# EAGLE library part TSW-S-45 (library con-samtec-tsw)
HEADER
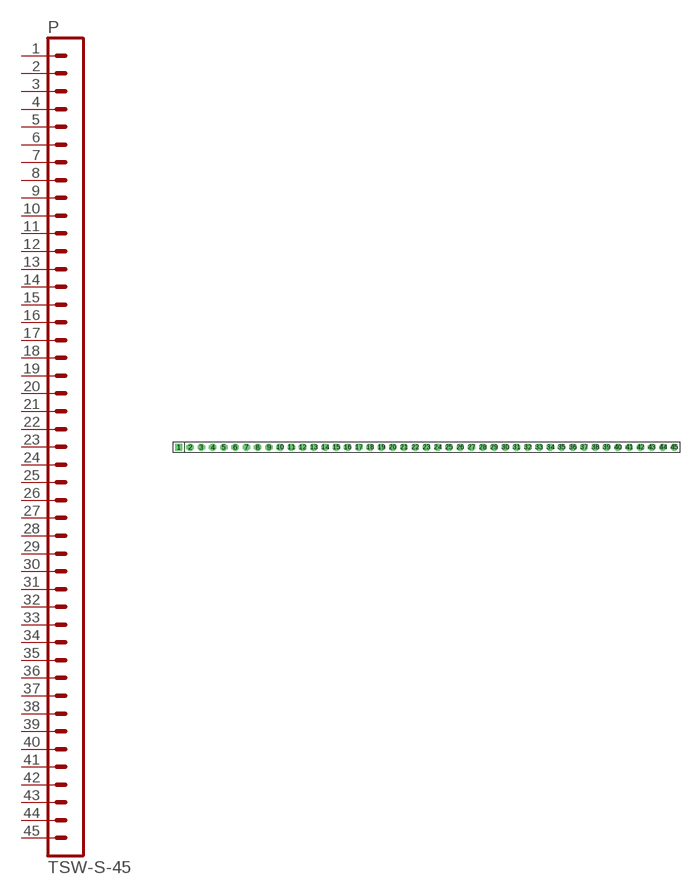
[diagram p39: symbol with the pads of TSW-S-45; footprint TSW-S-45]

Designator prefix P

## TSW-S-45  [TSW-S-45]
1  1  pas
2  2  pas
3  3  pas
4  4  pas
5  5  pas
6  6  pas
7  7  pas
8  8  pas
9  9  pas
10  10  pas
11  11  pas
12  12  pas
13  13  pas
14  14  pas
15  15  pas
16  16  pas
17  17  pas
18  18  pas
19  19  pas
20  20  pas
21  21  pas
22  22  pas
23  23  pas
24  24  pas
25  25  pas
26  26  pas
27  27  pas
28  28  pas
29  29  pas
30  30  pas
31  31  pas
32  32  pas
33  33  pas
34  34  pas
35  35  pas
36  36  pas
37  37  pas
38  38  pas
39  39  pas
40  40  pas
41  41  pas
42  42  pas
43  43  pas
44  44  pas
45  45  pas

## Footprint TSW-S-45 (pad centres in mm)
HEADER
drill 0.914 pad 1.676 square: 1 -55.88,0
drill 0.914 pad 1.676 octagon: 2 -53.34,0; 3 -50.8,0; 4 -48.26,0; 5 -45.72,0; 6 -43.18,0; 7 -40.64,0; 8 -38.1,0; 9 -35.56,0; 10 -33.02,0; 11 -30.48,0; 12 -27.94,0; 13 -25.4,0; 14 -22.86,0; 15 -20.32,0; 16 -17.78,0; 17 -15.24,0; 18 -12.7,0; 19 -10.16,0; 20 -7.62,0; 21 -5.08,0; 22 -2.54,0; 23 0,0; 24 2.54,0; 25 5.08,0; 26 7.62,0; 27 10.16,0; 28 12.7,0; 29 15.24,0; 30 17.78,0; 31 20.32,0; 32 22.86,0; 33 25.4,0; 34 27.94,0; 35 30.48,0; 36 33.02,0; 37 35.56,0; 38 38.1,0; 39 40.64,0; 40 43.18,0; 41 45.72,0; 42 48.26,0; 43 50.8,0; 44 53.34,0; 45 55.88,0